# Altium integrated library OptoRelay.IntLib: 5 symbols
Pins are listed as number, name and electrical type; pins without a type are passive.

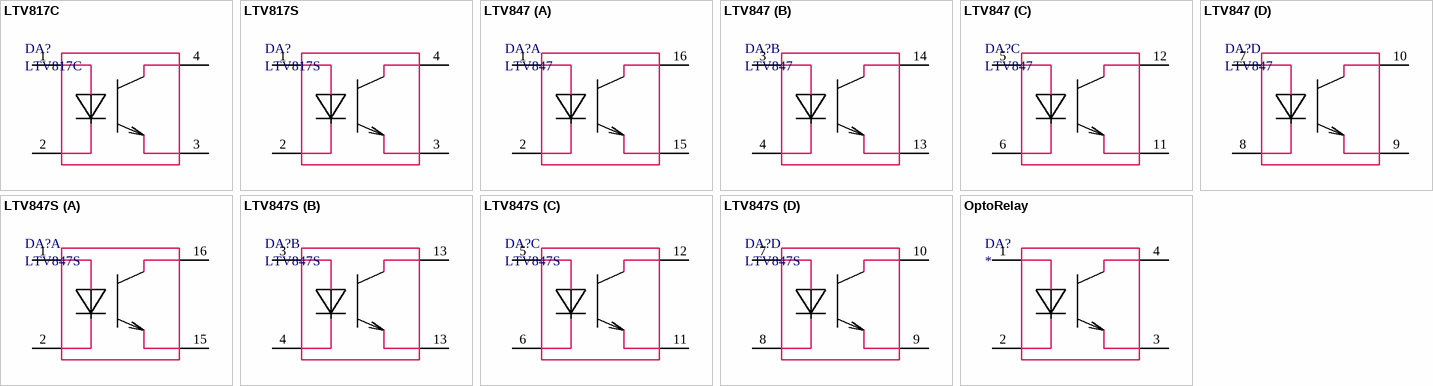
[diagram p0: symbols LTV817C to OptoRelay]

## LTV817C
designator DA?
footprint DIP2
pins: 1 +, 2 -, 3 E, 4 C

## LTV817S
designator DA?
footprint DIP4
pins: 1 +, 2 -, 3 E, 4 C

## LTV847
designator DA?
footprint DIP16
part A pins: 1 +, 2 -, 15 E, 16 C
part B pins: 3 +, 4 -, 13 E, 14 C
part C pins: 5 +, 6 -, 11 E, 12 C
part D pins: 7 +, 8 -, 9 E, 10 C

## LTV847S
designator DA?
part A pins: 1 +, 2 -, 15 E, 16 C
part B pins: 3 +, 4 -, 13 C, 13 E
part C pins: 5 +, 6 -, 11 E, 12 C
part D pins: 7 +, 8 -, 9 E, 10 C

## OptoRelay
designator DA?
pins: 1 +, 2 -, 3 E, 4 C